# Altium schematic symbol library JTAG.SchLib: 1 symbol
Pins are listed as number, name and electrical type; pins without a type are passive.

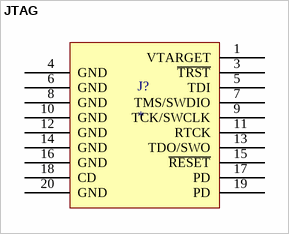
[diagram p0: symbol JTAG]

## JTAG
designator J?  (no BOM)
footprint 20 PIN JTAG
pins: 1 VTARGET, 3 ~{TRST}, 4 GND, 5 TDI, 6 GND, 7 TMS/SWDIO, 8 GND, 9 TCK/SWCLK, 10 GND, 11 RTCK, 12 GND, 13 TDO/SWO, 14 GND, 15 ~{RESET}, 16 GND, 17 PD, 18 CD, 19 PD, 20 GND